# Altium schematic symbol library Capacitors-1210.SchLib: 8 symbols
Pins are listed as number, name and electrical type; pins without a type are passive.

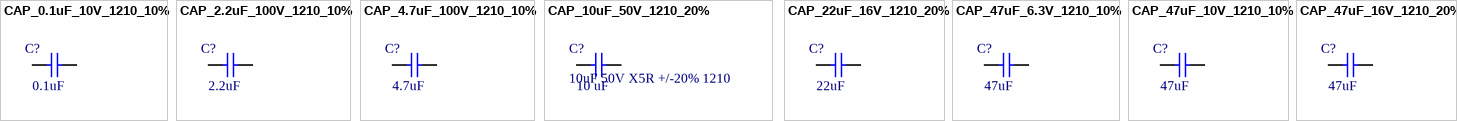
[diagram p0: symbols CAP_0.1uF_10V_1210_10% to CAP_47uF_16V_1210_20%]

## CAP_0.1uF_10V_1210_10%
designator C?, comment value 0.1uF  (hidden comment: 0.1uF 10V 1210)
0.1uF 10V 10% 1210 (3225 Metric); Manufacturer: Murata; Mounting Technology: Surface Mount; PackageReference: 1210; PackageDescription: 1210 (3225 Metric); Voltage: 10V; Tolerance: 10%
footprint C1210[3225X200] (Chip Capacitor, Body 3.2x2.5mm)
pins: 1, 2

## CAP_2.2uF_100V_1210_10%
designator C?, comment value 2.2uF  (hidden comment: 2.2uF 100V 1210)
2.2uF 100V 10% 1210 (3225 Metric); PartNumber: GRM32ER72A225KA35; Manufacturer: Murata; Mounting Technology: Surface Mount; PackageReference: 1210; PackageDescription: 1210 (3225 Metric); Voltage: 100V; Tolerance: 10%
footprint C1210[3225X200] (Chip Capacitor, Body 3.2x2.5mm)
pins: 1, 2

## CAP_4.7uF_100V_1210_10%
designator C?, comment value 4.7uF  (hidden comment: 4.7uF 100V 1210)
4.7uF 100V 10% 1210 (3225 Metric); PartNumber: GRJ32DC72A475KE11L; Manufacturer: Murata; Mounting Technology: Surface Mount; PackageReference: 1210; PackageDescription: 1210 (3225 Metric); Voltage: 100V; Tolerance: 10%
footprint C1210[3225X200] (Chip Capacitor, Body 3.2x2.5mm)
pins: 1, 2

## CAP_10uF_50V_1210_20%
designator C?, comment 10uF 50V X5R +/-20% 1210  value 10 uF
Manufacturer: Taiyo Yuden; PartNumber: UMK325BJ106MM-T; Tolerance: 20%; Voltage: 50V; Mounting Technology: Surface Mount; PackageReference: 1210; PackageDescription: 1210 (3325 Metric)
footprint C1210[3225X150] (Chip Capacitor, Body 3.2x2.5mm)
pins: 1, 2

## CAP_22uF_16V_1210_20%
designator C?, comment value 22uF  (hidden comment: 22uF 16V 1210)
22uF 16V 20% 1210 (3225 Metric); PartNumber: GCJ32ER71C226KE01L; Manufacturer: Murata; Tolerance: 10%; Mounting Technology: Surface Mount; PackageReference: 1210; PackageDescription: 1210 (3225 Metric); Voltage: 16V
footprint C1210[3225X250] (Chip Capacitor, Body 3.2x2.5mm)
pins: 1, 2

## CAP_47uF_6.3V_1210_10%
designator C?, comment value 47uF  (hidden comment: 47uF 6.3V 1210)
47uF 6.3V 10% 1210 (3225 Metric); PartNumber: GRM32ER70J476KE20L; Manufacturer: Murata; Mounting Technology: Surface Mount; PackageReference: 1210; PackageDescription: 1210 (3225 Metric); Voltage: 6.3V; Tolerance: 10%
footprint C1210[3225X250] (Chip Capacitor, Body 3.2x2.5mm)
pins: 1, 2

## CAP_47uF_10V_1210_10%
designator C?, comment value 47uF  (hidden comment: 47uF 10V 1210)
47uF 10V 10% 1210 (3225 Metric); PartNumber: GRM32ER71A476KE15L; Manufacturer: Murata; Mounting Technology: Surface Mount; PackageReference: 1210; PackageDescription: 1210 (3225 Metric); Voltage: 10V; Tolerance: 10%
footprint C1210[3225X250] (Chip Capacitor, Body 3.2x2.5mm)
pins: 1, 2

## CAP_47uF_16V_1210_20%
designator C?, comment value 47uF  (hidden comment: 47uF 16V 1210)
47uF 16V 20% 1210 (3225 Metric); PartNumber: GRM32ER61C476ME15L; Manufacturer: Murata; Mounting Technology: Surface Mount; PackageReference: 1210; PackageDescription: 1210 (3225 Metric); Voltage: 16V; Tolerance: 20%
footprint C1210[3225X250] (Chip Capacitor, Body 3.2x2.5mm)
pins: 1, 2